# Altium schematic symbol library SJ1-3525N.SchLib: 1 symbol
Pins are listed as number, name and electrical type; pins without a type are passive.

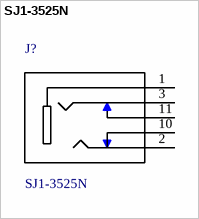
[diagram p0: symbol SJ1-3525N]

## SJ1-3525N
designator J?
Value: *
footprint *CUI_SJ1-3525N
pins: 1, 2, 3, 10, 11